# EAGLE library part INA3221-Q1 (library calsat)
INA3221-Q1 current sense amplifier with I2C interface
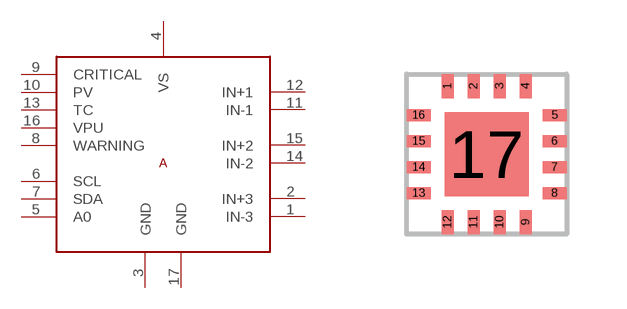
[diagram p4: symbol with the pads of VQFN16; footprint VQFN16]

Designator prefix A

## INA3221-Q1  [VQFN16]
1  IN-3  in
2  IN+3  in
3  GND  pwr
4  VS  pwr
5  A0
6  SCL
7  SDA
8  WARNING
9  CRITICAL
10  PV
11  IN-1  in
12  IN+1  in
13  TC
14  IN-2  in
15  IN+2  in
16  VPU
17  GND  pwr

## Footprint VQFN16 (pad centres in mm)
smd 0.3 x 0.6: 1 -0.975,1.7; 2 -0.325,1.7; 3 0.325,1.7; 4 0.975,1.7; 9 0.975,-1.7; 10 0.325,-1.7; 11 -0.325,-1.7; 12 -0.975,-1.7
smd 0.6 x 0.3: 5 1.7,0.975; 6 1.7,0.325; 7 1.7,-0.325; 8 1.7,-0.975; 13 -1.7,-0.975; 14 -1.7,-0.325; 15 -1.7,0.325; 16 -1.7,0.975
smd 2.1 x 2.1: 17 0,0